# EAGLE library part 53398-0671 (library 53398-0671)
Headers & Wire Housings VERTICAL HDR SMT 6P Source: Datasheet <https://www.mouser.co.uk/datasheet/2/276/0533980671_PCB_HEADERS-256970.pdf>
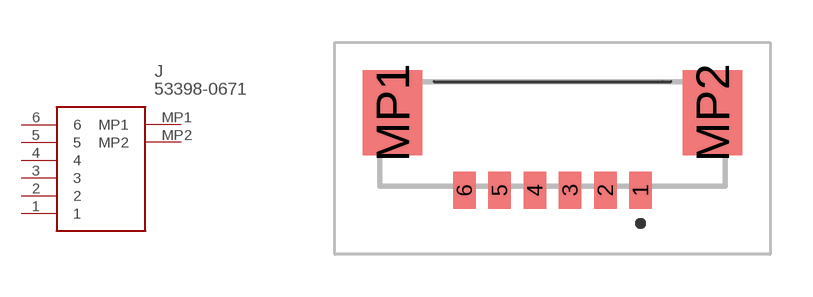
[diagram p0: symbol with the pads of 533980671; footprint 533980671]

Designator prefix J

## 53398-0671 (Description: Headers & Wire Housings VERTICAL HDR SMT 6P; Height: 4.9mm; Manufacturer_Name: Molex; Manufacturer_Part_Number: 53398-0671; Mouser_Part_Number: 538-53398-0671; Mouser_Price-Stock: https://www.mouser.co.uk/ProductDetail/Molex/53398-0671?qs=JoXVr8r77yUvqiGcudjIoQ%3D%3D)  [533980671]
1  1
2  2
3  3
4  4
5  5
6  6
MP1  MP1
MP2  MP2

## Footprint 533980671 (pad centres in mm)
53398-0671-1
smd 0.8 x 1.3: 1 3.125,-1.925; 2 1.875,-1.925; 3 0.625,-1.925; 4 -0.625,-1.925; 5 -1.875,-1.925; 6 -3.125,-1.925
smd 2.1 x 3: MP1 -5.675,0.825; MP2 5.675,0.825